# Altium schematic symbol library UCC21710QDWQ1.SchLib: 1 symbol
Pins are listed as number, name and electrical type; pins without a type are passive.

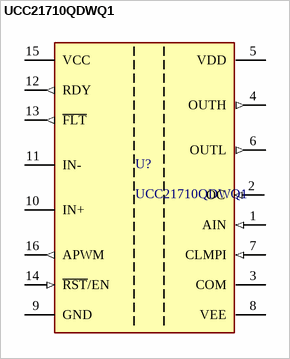
[diagram p0: symbol UCC21710QDWQ1]

## UCC21710QDWQ1
designator U?
footprint FP-DW0016B-IPC_A
footprint FP-DW0016B-IPC_B
footprint FP-DW0016B-IPC_C
footprint FP-DW0016B-MFG
pins: 1 AIN (in), 2 OC (in), 3 COM (power), 4 OUTH (out), 5 VDD (power), 6 OUTL (out), 7 CLMPI (in), 8 VEE (power), 9 GND (power), 10 IN+ (hiz), 11 IN- (hiz), 12 RDY (out), 13 ~{FLT} (out), 14 ~{RST}/EN (in), 15 VCC (power), 16 APWM (out)